# Altium integrated library Murata.IntLib: 4 symbols
Pins are listed as number, name and electrical type; pins without a type are passive.

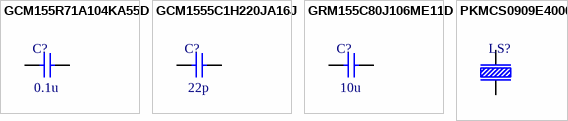
[diagram p0: symbols GCM155R71A104KA55D to PKMCS0909E4000]

## GCM155R71A104KA55D
designator C?, comment value 0.1u  (hidden comment: 0.1µF ±10% 10V Ceramic Capacitor X7R 0402 (1005 Metric))
CAP CER 0.1UF 10V X7R 0402; MPN: GCM155R71A104KA55D; Supplier 1: Digi-Key; Supplier Part Number 1: 490-16434-1-ND
footprint CAPC1005X06N (Chip Capacitor, 2-Leads, Body 1.00x0.50mm, IPC Medium Density)
pins: 1, 2

## GCM1555C1H220JA16J
designator C?, comment value 22p  (hidden comment: 22pF ±5% 50V Ceramic Capacitor C0G, NP0 0402 (1005 Metric))
CAP CER 22PF 50V NP0 0402; MPN: GCM1555C1H220JA16J; Supplier 1: Digi-Key; Supplier Part Number 1: 490-17747-1-ND
footprint Model Name (Footprint not found)
footprint CAPC1005X06N (Chip Capacitor, 2-Leads, Body 1.00x0.50mm, IPC Medium Density)
pins: 1, 2

## GRM155C80J106ME11D
designator C?, comment value 10u  (hidden comment: 10µF ±20% 6.3V Ceramic Capacitor X6S 0402 (1005 Metric))
CAP CER 10UF 6.3V X6S 0402; MPN: GRM155C80J106ME11D; Supplier 1: Digi-Key; Supplier Part Number 1: 490-13233-1-ND
footprint CAPC1005X06N (Chip Capacitor, 2-Leads, Body 1.00x0.50mm, IPC Medium Density)
pins: 1, 2

## PKMCS0909E4000
designator LS?, comment AUDIO PIEZO TRANSDUCER 12.5V SMD  (value not drawn)
Buzzers Transducer, Externally Driven Piezo 1.5V 4kHz 65dB @ 1.5V, 10cm Surface Mount Solder Pads; MPN: PKMCS0909E4000-R1; Supplier 1: Digi-Key; Supplier Part Number 1: 490-9647-1-ND
footprint PKMCS0909E4000 (SMD, 2-Leads, Body 9x9mm)
pins: 1, 2